# EAGLE library part MPL115A1 (library Lysenko_Eagle_Lib)
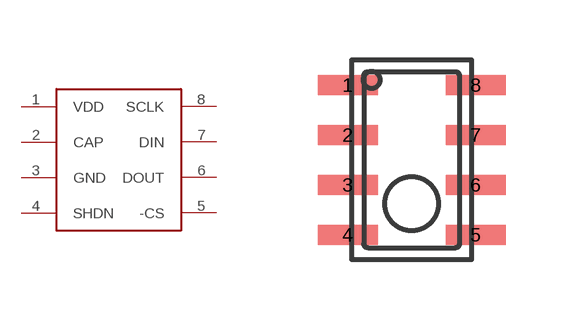
[diagram p20: symbol with the pads of MPL115A1; footprint MPL115A1]

Designator prefix -

## MPL115A1  [MPL115A1]
1  VDD
2  CAP
3  GND
4  SHDN
5  -CS
6  DOUT
7  DIN
8  SCLK

## Footprint MPL115A1 (pad centres in mm)
smd 1.5 x 0.5: 1 -0.1,4.375; 2 -0.1,3.125; 3 -0.1,1.875; 4 -0.1,0.625; 5 3.1,0.625; 6 3.1,1.875; 7 3.1,3.125; 8 3.1,4.375